# Altium integrated library Lattice MACHXO FPGA.IntLib: 109 symbols
Pins are listed as number, name and electrical type; pins without a type are passive.

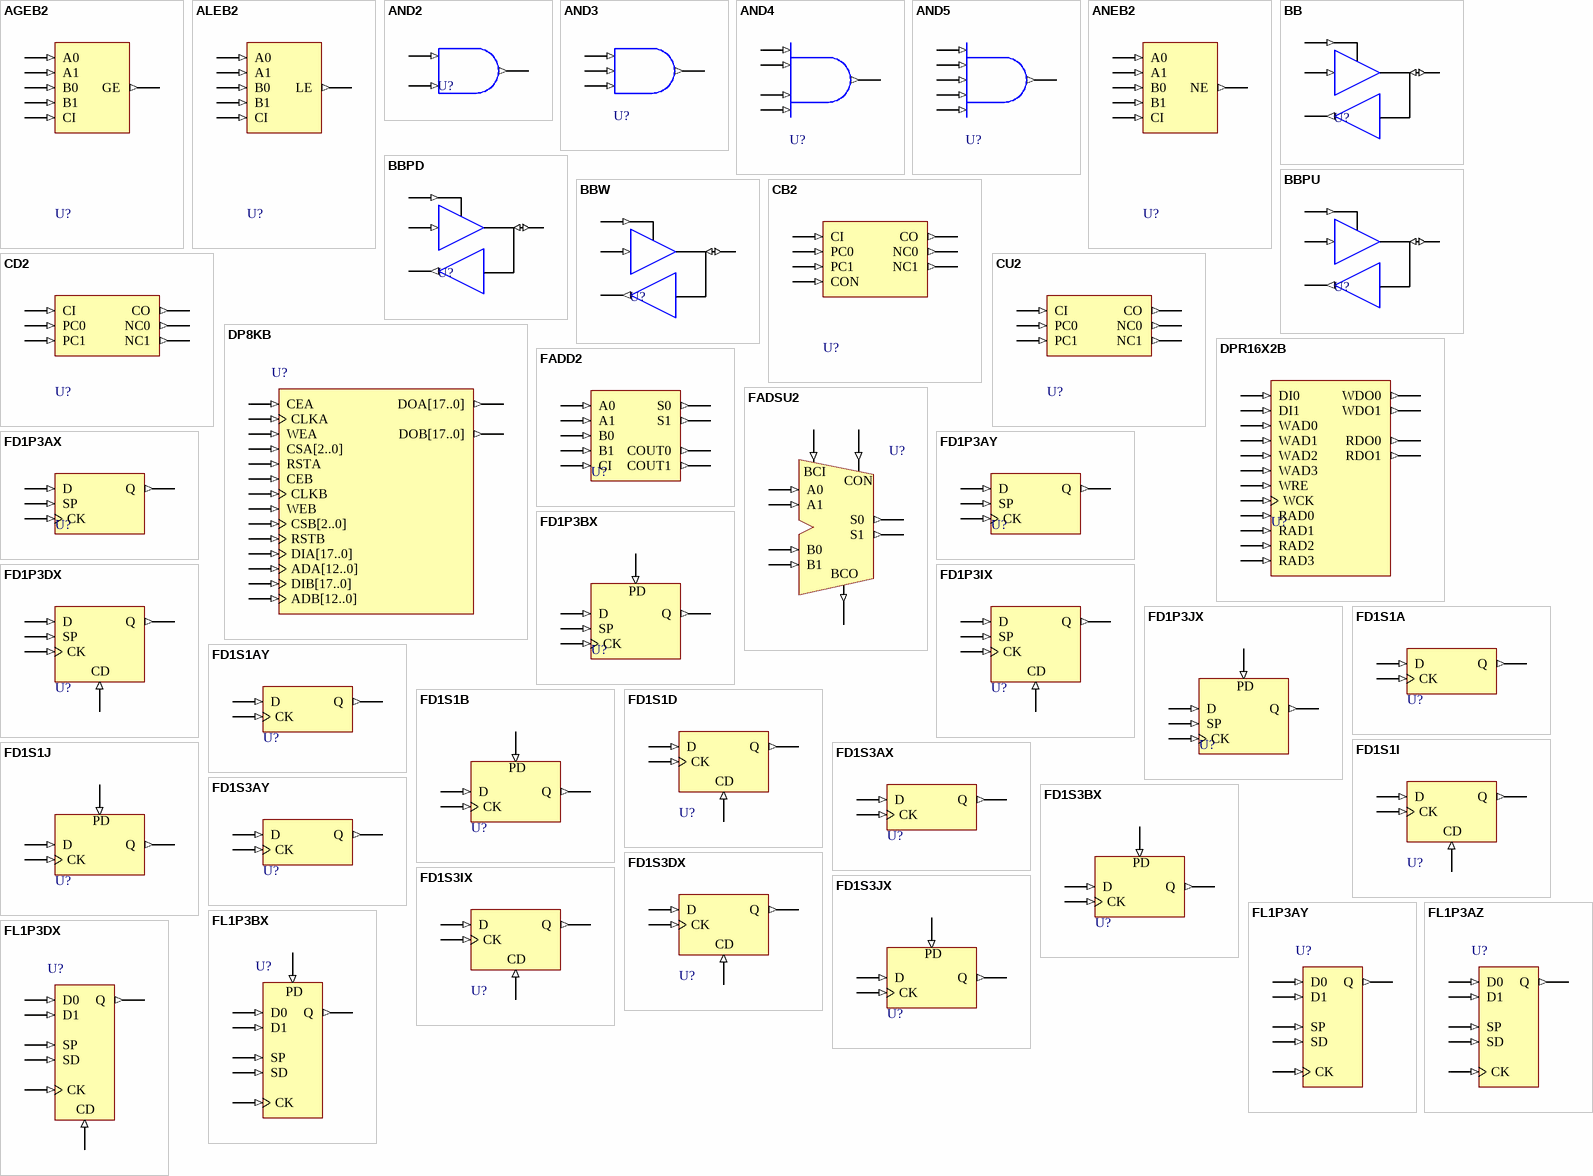
[diagram p0: symbols AGEB2 to FL1P3DX]

## AGEB2
designator U?
"A" Greater Than Or Equal To "B" (2 Bit); FPGAVendor: Lattice; Published: 5-Jul-2006; Publisher: Altium Limited; HelpURL: http://www.latticesemi.com/lit/docs/manuals/library.pdf
pins: A0 (in), A1 (in), B0 (in), B1 (in), CI (in), GE (out)

## ALEB2
designator U?
"A"Less Than Or Equal To "B" (2 bit); FPGAVendor: Lattice; Published: 5-Jul-2006; Publisher: Altium Limited; HelpURL: http://www.latticesemi.com/lit/docs/manuals/library.pdf
pins: A0 (in), A1 (in), B0 (in), B1 (in), CI (in), LE (out)

## AND2
designator U?
2 Input AND Gate; FPGAVendor: Lattice; Published: 5-Jul-2006; Publisher: Altium Limited; HelpURL: http://www.latticesemi.com/lit/docs/manuals/library.pdf
pins: A (in), B (in), Z (out)

## AND3
designator U?
3 Input AND Gate; FPGAVendor: Lattice; Published: 5-Jul-2006; Publisher: Altium Limited; HelpURL: http://www.latticesemi.com/lit/docs/manuals/library.pdf
pins: A (in), B (in), C (in), Z (out)

## AND4
designator U?
4 Input AND Gate; FPGAVendor: Lattice; Published: 5-Jul-2006; Publisher: Altium Limited; HelpURL: http://www.latticesemi.com/lit/docs/manuals/library.pdf
pins: A (in), B (in), C (in), D (in), Z (out)

## AND5
designator U?
5 Input AND Gate; FPGAVendor: Lattice; Published: 5-Jul-2006; Publisher: Altium Limited; HelpURL: http://www.latticesemi.com/lit/docs/manuals/library.pdf
pins: A (in), B (in), C (in), D (in), E (in), Z (out)

## ANEB2
designator U?
"A"Not Equal To "B" (2 bit); FPGAVendor: Lattice; Published: 5-Jul-2006; Publisher: Altium Limited; HelpURL: http://www.latticesemi.com/lit/docs/manuals/library.pdf
pins: A0 (in), A1 (in), B0 (in), B1 (in), CI (in), NE (out)

## BB
designator U?
CMOS Input 6mA Sink 3mA Source Sinklim Output Buffer with Tristate – BiDirectional; FPGAVendor: Lattice; Published: 5-Jul-2006; Publisher: Altium Limited; HelpURL: http://www.latticesemi.com/lit/docs/manuals/library.pdf
pins: B (io), I (in), O (out), T (in)

## BBPD
designator U?
CMOS Input 6mA Sink 3mA Source Sinklim Output Buffer with Tristate and Pull-down – BiDirectional; FPGAVendor: Lattice; Published: 5-Jul-2006; Publisher: Altium Limited; HelpURL: http://www.latticesemi.com/lit/docs/manuals/library.pdf
pins: B (io), I (in), O (out), T (in)

## BBPU
designator U?
CMOS Input 6mA Sink 3mA Source Sinklim Output Buffer with Tristate and Pull-up – BiDirectional; FPGAVendor: Lattice; Published: 5-Jul-2006; Publisher: Altium Limited; HelpURL: http://www.latticesemi.com/lit/docs/manuals/library.pdf
pins: B (io), I (in), O (out), T (in)

## BBW
designator U?
CMOS Input 6mA Sink 3mA Source Sinklim Output Buffer with Tristate – BiDirectional in keepermode; FPGAVendor: Lattice; Published: 5-Jul-2006; Publisher: Altium Limited; HelpURL: http://www.latticesemi.com/lit/docs/manuals/library.pdf
pins: B (io), I (in), O (out), T (in)

## CB2
designator U?
LatticeXP based counter; Published: 5-Jul-2006; Publisher: Altium Limited; FPGAVendor: Lattice; HelpURL: http://www.latticesemi.com/lit/docs/manuals/library.pdf
pins: CI (in), CO (out), CON (in), NC0 (out), NC1 (out), PC0 (in), PC1 (in)

## CD2
designator U?
Combinational Logic for 2 Bit Down Counter using Look-Up Table; FPGAVendor: Lattice; Published: 5-Jul-2006; Publisher: Altium Limited; HelpURL: http://www.latticesemi.com/lit/docs/manuals/library.pdf
pins: CI (in), CO (out), NC0 (out), NC1 (out), PC0 (in), PC1 (in)

## CU2
designator U?
Combinational Logic for 2 Bit Up Counter using Look-Up Table; FPGAVendor: Lattice; Published: 5-Jul-2006; Publisher: Altium Limited; HelpURL: http://www.latticesemi.com/lit/docs/manuals/library.pdf
pins: CI (in), CO (out), NC0 (out), NC1 (out), PC0 (in), PC1 (in)

## DP8KB
designator U?
8K Dual Port Block RAM; FPGAVendor: Lattice; Published: 5-Jul-2006; Publisher: Altium Limited; HelpURL: http://www.latticesemi.com/lit/docs/manuals/library.pdf
pins: ADA[12..0] (in), ADB[12..0] (in), CEA (in), CEB (in), CLKA (in), CLKB (in), CSA[2..0] (in), CSB[2..0] (in), DIA[17..0] (in), DIB[17..0] (in), DOA[17..0] (out), DOB[17..0] (out), RSTA (in), RSTB (in), WEA (in), WEB (in)

## DPR16X2B
designator U?
16 Word by 2 Dual Port RAM (within PFU); FPGAVendor: Lattice; Published: 5-Jul-2006; Publisher: Altium Limited; HelpURL: http://www.latticesemi.com/lit/docs/manuals/library.pdf
pins: DI0 (in), DI1 (in), RAD0 (in), RAD1 (in), RAD2 (in), RAD3 (in), RDO0 (out), RDO1 (out), WAD0 (in), WAD1 (in), WAD2 (in), WAD3 (in), WCK (in), WDO0 (out), WDO1 (out), WRE (in)

## FADD2
designator U?
2 Bit Fast Adder; FPGAVendor: Lattice; Published: 5-Jul-2006; Publisher: Altium Limited; HelpURL: http://www.latticesemi.com/lit/docs/manuals/library.pdf
pins: A0 (in), A1 (in), B0 (in), B1 (in), CI (in), COUT0 (out), COUT1 (out), S0 (out), S1 (out)

## FADSU2
designator U?
2 Bit Fast Adder/Subtracter (two’s complement); FPGAVendor: Lattice; Published: 5-Jul-2006; Publisher: Altium Limited; HelpURL: http://www.latticesemi.com/lit/docs/manuals/library.pdf
pins: A0 (in), A1 (in), B0 (in), B1 (in), BCI (in), BCO (out), CON (in), S0 (out), S1 (out)

## FD1P3AX
designator U?
Positive Edge Triggered D Flip-Flop with Positive Level Enable, GSR used for Clear; FPGAVendor: Lattice; Published: 5-Jul-2006; Publisher: Altium Limited; HelpURL: http://www.latticesemi.com/lit/docs/manuals/library.pdf
pins: CK (in), D (in), Q (out), SP (in)

## FD1P3AY
designator U?
Positive Edge Triggered D Flip-Flop with Positive Level Enable, GSR used for Preset; FPGAVendor: Lattice; Published: 5-Jul-2006; Publisher: Altium Limited; HelpURL: http://www.latticesemi.com/lit/docs/manuals/library.pdf
pins: CK (in), D (in), Q (out), SP (in)

## FD1P3BX
designator U?
Positive Edge Triggered D Flip-Flop with Positive Level Enable and Positive Level Asynchronous Preset; FPGAVendor: Lattice; Published: 5-Jul-2006; Publisher: Altium Limited; HelpURL: http://www.latticesemi.com/lit/docs/manuals/library.pdf
pins: CK (in), D (in), PD (in), Q (out), SP (in)

## FD1P3DX
designator U?
Positive Edge Triggered D Flip-Flop with Positive Level Enable and Positive Level Asynchronous Clear; FPGAVendor: Lattice; Published: 5-Jul-2006; Publisher: Altium Limited; HelpURL: http://www.latticesemi.com/lit/docs/manuals/library.pdf
pins: CD (in), CK (in), D (in), Q (out), SP (in)

## FD1P3IX
designator U?
Positive Edge Triggered D Flip-Flop with Positive Level Synchronous Clear and Positive Level Enable (Clear overrides Enable); FPGAVendor: Lattice; Published: 5-Jul-2006; Publisher: Altium Limited; HelpURL: http://www.latticesemi.com/lit/docs/manuals/library.pdf
pins: CD (in), CK (in), D (in), Q (out), SP (in)

## FD1P3JX
designator U?
Positive Edge Triggered D Flip-Flop with Positive Level Synchronous Preset and Positive Level Enable (Preset overrides Enable); FPGAVendor: Lattice; Published: 5-Jul-2006; Publisher: Altium Limited; HelpURL: http://www.latticesemi.com/lit/docs/manuals/library.pdf
pins: CK (in), D (in), PD (in), Q (out), SP (in)

## FD1S1A
designator U?
Positive Level Data Latch with GSR Used for Clear; FPGAVendor: Lattice; Published: 5-Jul-2006; Publisher: Altium Limited; HelpURL: http://www.latticesemi.com/lit/docs/manuals/library.pdf
pins: CK (in), D (in), Q (out)

## FD1S1AY
designator U?
Positive Level Data Latch with GSR Used for Preset; FPGAVendor: Lattice; Published: 5-Jul-2006; Publisher: Altium Limited; HelpURL: http://www.latticesemi.com/lit/docs/manuals/library.pdf
pins: CK (in), D (in), Q (out)

## FD1S1B
designator U?
Positive Level Data Latch with Positive Level Asynchronous Preset; FPGAVendor: Lattice; Published: 5-Jul-2006; Publisher: Altium Limited; HelpURL: http://www.latticesemi.com/lit/docs/manuals/library.pdf
pins: CK (in), D (in), PD (in), Q (out)

## FD1S1D
designator U?
Positive Level Data Latch with Positive Level Asynchronous Clear; FPGAVendor: Lattice; Published: 5-Jul-2006; Publisher: Altium Limited; HelpURL: http://www.latticesemi.com/lit/docs/manuals/library.pdf
pins: CD (in), CK (in), D (in), Q (out)

## FD1S1I
designator U?
Positive Level Data Latch with Positive Level Synchronous Clear; FPGAVendor: Lattice; Published: 5-Jul-2006; Publisher: Altium Limited; HelpURL: http://www.latticesemi.com/lit/docs/manuals/library.pdf
pins: CD (in), CK (in), D (in), Q (out)

## FD1S1J
designator U?
Positive Level Data Latch with Positive Level Synchronous Preset; FPGAVendor: Lattice; Published: 5-Jul-2006; Publisher: Altium Limited; HelpURL: http://www.latticesemi.com/lit/docs/manuals/library.pdf
pins: CK (in), D (in), PD (in), Q (out)

## FD1S3AX
designator U?
Positive Edge Triggered D Flip-Flop, GSR Used for Clear; FPGAVendor: Lattice; Published: 5-Jul-2006; Publisher: Altium Limited; HelpURL: http://www.latticesemi.com/lit/docs/manuals/library.pdf
pins: CK (in), D (in), Q (out)

## FD1S3AY
designator U?
Positive Edge Triggered D Flip-Flop, GSR Used for Preset; FPGAVendor: Lattice; Published: 5-Jul-2006; Publisher: Altium Limited; HelpURL: http://www.latticesemi.com/lit/docs/manuals/library.pdf
pins: CK (in), D (in), Q (out)

## FD1S3BX
designator U?
Positive Edge Triggered D Flip-Flop with Positive Level Asynchronous Preset; FPGAVendor: Lattice; Published: 5-Jul-2006; Publisher: Altium Limited; HelpURL: http://www.latticesemi.com/lit/docs/manuals/library.pdf
pins: CK (in), D (in), PD (in), Q (out)

## FD1S3DX
designator U?
Positive Edge Triggered D Flip-Flop with Positive Level Asynchronous Clear; FPGAVendor: Lattice; Published: 5-Jul-2006; Publisher: Altium Limited; HelpURL: http://www.latticesemi.com/lit/docs/manuals/library.pdf
pins: CD (in), CK (in), D (in), Q (out)

## FD1S3IX
designator U?
Positive Edge Triggered D Flip-Flop with Positive Level Synchronous Clear; FPGAVendor: Lattice; Published: 5-Jul-2006; Publisher: Altium Limited; HelpURL: http://www.latticesemi.com/lit/docs/manuals/library.pdf
pins: CD (in), CK (in), D (in), Q (out)

## FD1S3JX
designator U?
Positive Edge Triggered D Flip-Flop with Positive Level Synchronous Preset; FPGAVendor: Lattice; Published: 5-Jul-2006; Publisher: Altium Limited; HelpURL: http://www.latticesemi.com/lit/docs/manuals/library.pdf
pins: CK (in), D (in), PD (in), Q (out)

## FL1P3AY
designator U?
Positive Edge Triggered D Flip-Flop with 2 Input Data Mux, Positive Level Data Select, and Positive Level Enable, GSR used for Preset; FPGAVendor: Lattice; Published: 5-Jul-2006; Publisher: Altium Limited; HelpURL: http://www.latticesemi.com/lit/docs/manuals/library.pdf
pins: CK (in), D0 (in), D1 (in), Q (out), SD (in), SP (in)

## FL1P3AZ
designator U?
Positive Edge Triggered D Flip-Flop with 2 Input Data Mux, Positive Level Data Select, and Positive Level Enable, GSR used for Clear; FPGAVendor: Lattice; Published: 5-Jul-2006; Publisher: Altium Limited; HelpURL: http://www.latticesemi.com/lit/docs/manuals/library.pdf
pins: CK (in), D0 (in), D1 (in), Q (out), SD (in), SP (in)

## FL1P3BX
designator U?
Positive Edge Triggered D Flip-Flop with 2 Input Data Mux, Positive Level Data Select, Positive Level Asynchronous Preset, and Positive Level Enable; FPGAVendor: Lattice; Published: 5-Jul-2006; Publisher: Altium Limited; HelpURL: http://www.latticesemi.com/lit/docs/manuals/library.pdf
pins: CK (in), D0 (in), D1 (in), PD (in), Q (out), SD (in), SP (in)

## FL1P3DX
designator U?
Positive Edge Triggered D Flip-Flop with 2 Input Data Mux, Positive Level Data Select, Positive Level Asynchronous Clear, and Positive Level Enable; FPGAVendor: Lattice; Published: 5-Jul-2006; Publisher: Altium Limited; HelpURL: http://www.latticesemi.com/lit/docs/manuals/library.pdf
pins: CD (in), CK (in), D0 (in), D1 (in), Q (out), SD (in), SP (in)

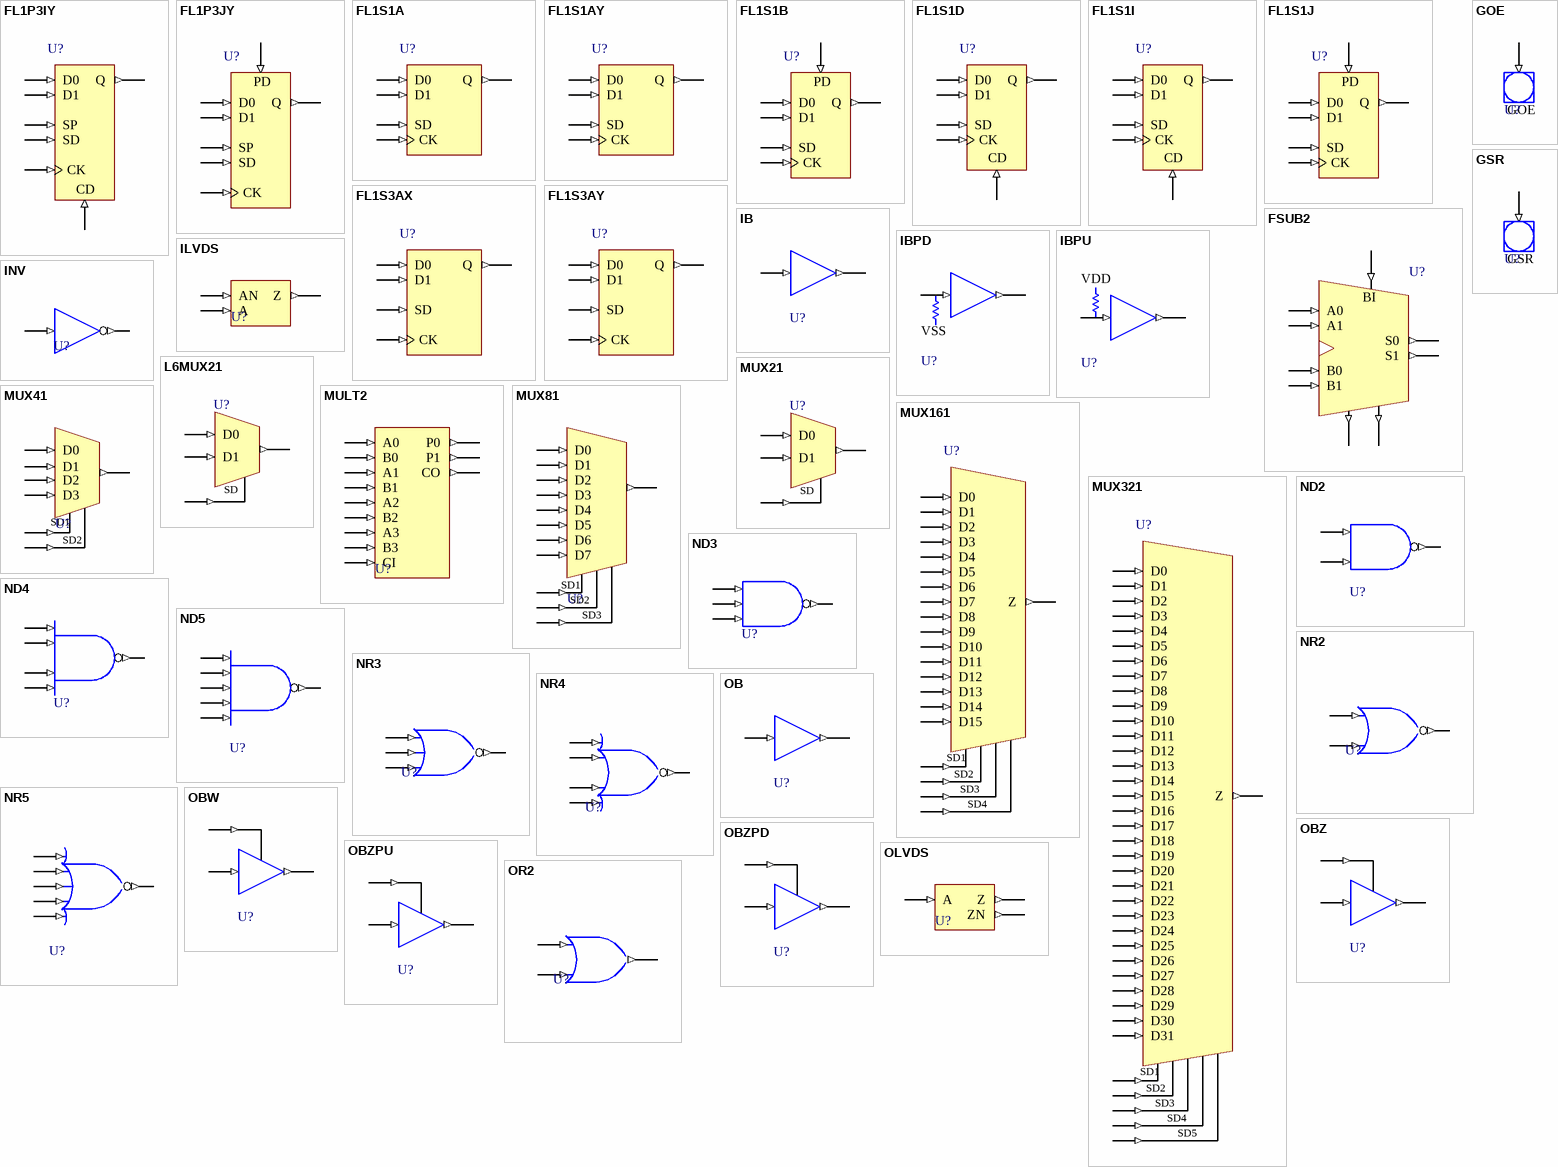
[diagram p1: symbols FL1P3IY to OR2]

## FL1P3IY
designator U?
Positive Edge Triggered D Flip-Flop with 2 Input Data Mux, Positive Level Data Select, Positive Level Synchronous Clear, and Positive Level Enable (Clear overrides Enable); FPGAVendor: Lattice; Published: 5-Jul-2006; Publisher: Altium Limited; HelpURL: http://www.latticesemi.com/lit/docs/manuals/library.pdf
pins: CD (in), CK (in), D0 (in), D1 (in), Q (out), SD (in), SP (in)

## FL1P3JY
designator U?
Positive Edge Triggered D Flip-Flop with 2 Input Data Mux, Positive Level Data Select, Positive Level Synchronous Preset, and Positive Level Enable (Preset overrides Enable); FPGAVendor: Lattice; Published: 5-Jul-2006; Publisher: Altium Limited; HelpURL: http://www.latticesemi.com/lit/docs/manuals/library.pdf
pins: CK (in), D0 (in), D1 (in), PD (in), Q (out), SD (in), SP (in)

## FL1S1A
designator U?
Positive Level Loadable Latch with Positive Select, GSR Used for Clear; FPGAVendor: Lattice; Published: 5-Jul-2006; Publisher: Altium Limited; HelpURL: http://www.latticesemi.com/lit/docs/manuals/library.pdf
pins: CK (in), D0 (in), D1 (in), Q (out), SD (in)

## FL1S1AY
designator U?
Positive Level Loadable Latch with Positive Select, GSR Used for Preset; FPGAVendor: Lattice; Published: 5-Jul-2006; Publisher: Altium Limited; HelpURL: http://www.latticesemi.com/lit/docs/manuals/library.pdf
pins: CK (in), D0 (in), D1 (in), Q (out), SD (in)

## FL1S1B
designator U?
Positive Level Loadable Latch with Positive Level Data Select and Positive Level Asynchronous Preset; FPGAVendor: Lattice; Published: 5-Jul-2006; Publisher: Altium Limited; HelpURL: http://www.latticesemi.com/lit/docs/manuals/library.pdf
pins: CK (in), D0 (in), D1 (in), PD (in), Q (out), SD (in)

## FL1S1D
designator U?
Positive Level Loadable Latch with Positive Level Data Select and Positive Level Asynchronous Clear; FPGAVendor: Lattice; Published: 5-Jul-2006; Publisher: Altium Limited; HelpURL: http://www.latticesemi.com/lit/docs/manuals/library.pdf
pins: CD (in), CK (in), D0 (in), D1 (in), Q (out), SD (in)

## FL1S1I
designator U?
Positive Level Loadable Latch with Positive Level Data Select and Positive Level Synchronous Clear; FPGAVendor: Lattice; Published: 5-Jul-2006; Publisher: Altium Limited; HelpURL: http://www.latticesemi.com/lit/docs/manuals/library.pdf
pins: CD (in), CK (in), D0 (in), D1 (in), Q (out), SD (in)

## FL1S1J
designator U?
Positive Level Loadable Latch with Positive Level Data Select and Positive Level Synchronous Preset; FPGAVendor: Lattice; Published: 5-Jul-2006; Publisher: Altium Limited; HelpURL: http://www.latticesemi.com/lit/docs/manuals/library.pdf
pins: CK (in), D0 (in), D1 (in), PD (in), Q (out), SD (in)

## FL1S3AX
designator U?
Positive Edge Triggered D Flip-Flop with 2 Input Data Mux, GSR used for Clear; FPGAVendor: Lattice; Published: 5-Jul-2006; Publisher: Altium Limited; HelpURL: http://www.latticesemi.com/lit/docs/manuals/library.pdf
pins: CK (in), D0 (in), D1 (in), Q (out), SD (in)

## FL1S3AY
designator U?
Positive Edge Triggered D Flip-Flop with 2 Input Data Mux, GSR used for Preset; FPGAVendor: Lattice; Published: 5-Jul-2006; Publisher: Altium Limited; HelpURL: http://www.latticesemi.com/lit/docs/manuals/library.pdf
pins: CK (in), D0 (in), D1 (in), Q (out), SD (in)

## FSUB2
designator U?
2 Bit Fast Subtracter (two’s complement); FPGAVendor: Lattice; Published: 5-Jul-2006; Publisher: Altium Limited; HelpURL: http://www.latticesemi.com/lit/docs/manuals/library.pdf
pins: A0 (in), A1 (in), B0 (in), B1 (in), BI (in), BOUT0 (out), BOUT1 (out), S0 (out), S1 (out)

## GOE
designator U?
Global Ouput Enable; FPGAVendor: Lattice; Published: 5-Jul-2006; Publisher: Altium Limited; HelpURL: http://www.latticesemi.com/lit/docs/manuals/library.pdf
pins: GOE (in)

## GSR
designator U?
Global Set/Reset; FPGAVendor: Lattice; Published: 5-Jul-2006; Publisher: Altium Limited; HelpURL: http://www.latticesemi.com/lit/docs/manuals/library.pdf
pins: GSR (in)

## IB
designator U?
CMOS Input Buffer; FPGAVendor: Lattice; Published: 5-Jul-2006; Publisher: Altium Limited; HelpURL: http://www.latticesemi.com/lit/docs/manuals/library.pdf
pins: I (in), O (out)

## IBPD
designator U?
Input Buffer with Pull-down; FPGAVendor: Lattice; Published: 5-Jul-2006; Publisher: Altium Limited; HelpURL: http://www.latticesemi.com/lit/docs/manuals/library.pdf
pins: I (in), O (out)
text: VSS

## IBPU
designator U?
Input Buffer with Pull-up; FPGAVendor: Lattice; Published: 5-Jul-2006; Publisher: Altium Limited; HelpURL: http://www.latticesemi.com/lit/docs/manuals/library.pdf
pins: I (in), O (out)
text: VDD

## ILVDS
designator U?
LVDS Input Buffer; FPGAVendor: Lattice; Published: 5-Jul-2006; Publisher: Altium Limited; HelpURL: http://www.latticesemi.com/lit/docs/manuals/library.pdf
pins: A (in), AN (in), Z (out)

## INV
designator U?
Inverter; FPGAVendor: Lattice; Published: 5-Jul-2006; Publisher: Altium Limited; HelpURL: http://www.latticesemi.com/lit/docs/manuals/library.pdf
pins: A (in), Z (out)

## L6MUX21
designator U?
2 to 1 Mux; FPGAVendor: Lattice; Published: 5-Jul-2006; Publisher: Altium Limited; HelpURL: http://www.latticesemi.com/lit/docs/manuals/library.pdf
pins: D0 (in), D1 (in), SD (in), Z (out)

## MULT2
designator U?
2x2 Multiplier; FPGAVendor: Lattice; Published: 5-Jul-2006; Publisher: Altium Limited; HelpURL: http://www.latticesemi.com/lit/docs/manuals/library.pdf
pins: A0 (in), A1 (in), A2 (in), A3 (in), B0 (in), B1 (in), B2 (in), B3 (in), CI (in), CO (out), P0 (out), P1 (out)

## MUX21
designator U?
2 to 1 Mux; FPGAVendor: Lattice; Published: 5-Jul-2006; Publisher: Altium Limited; HelpURL: http://www.latticesemi.com/lit/docs/manuals/library.pdf
pins: D0 (in), D1 (in), SD (in), Z (out)

## MUX41
designator U?
4 to 1 Mux; FPGAVendor: Lattice; Published: 5-Jul-2006; Publisher: Altium Limited; HelpURL: http://www.latticesemi.com/lit/docs/manuals/library.pdf
pins: D0 (in), D1 (in), D2 (in), D3 (in), SD1 (in), SD2 (in), Z (out)

## MUX81
designator U?
8 to 1 Mux; FPGAVendor: Lattice; Published: 5-Jul-2006; Publisher: Altium Limited; HelpURL: http://www.latticesemi.com/lit/docs/manuals/library.pdf
pins: D0 (in), D1 (in), D2 (in), D3 (in), D4 (in), D5 (in), D6 (in), D7 (in), SD1 (in), SD2 (in), SD3 (in), Z (out)

## MUX161
designator U?
16 to 1 Mux in PFU; FPGAVendor: Lattice; Published: 5-Jul-2006; Publisher: Altium Limited; HelpURL: http://www.latticesemi.com/lit/docs/manuals/library.pdf
pins: D0 (in), D1 (in), D2 (in), D3 (in), D4 (in), D5 (in), D6 (in), D7 (in), D8 (in), D9 (in), D10 (in), D11 (in), D12 (in), D13 (in), D14 (in), D15 (in), SD1 (in), SD2 (in), SD3 (in), SD4 (in), Z (out)

## MUX321
designator U?
32 to 1 Mux; FPGAVendor: Lattice; Published: 5-Jul-2006; Publisher: Altium Limited; HelpURL: http://www.latticesemi.com/lit/docs/manuals/library.pdf
pins: D0 (in), D1 (in), D2 (in), D3 (in), D4 (in), D5 (in), D6 (in), D7 (in), D8 (in), D9 (in), D10 (in), D11 (in), D12 (in), D13 (in), D14 (in), D15 (in), D16 (in), D17 (in), D18 (in), D19 (in), D20 (in), D21 (in), D22 (in), D23 (in), D24 (in), D25 (in), D26 (in), D27 (in), D28 (in), D29 (in), D30 (in), D31 (in), SD1 (in), SD2 (in), SD3 (in), SD4 (in), SD5 (in), Z (out)

## ND2
designator U?
2 Input NAND Gate; FPGAVendor: Lattice; Published: 5-Jul-2006; Publisher: Altium Limited; HelpURL: http://www.latticesemi.com/lit/docs/manuals/library.pdf
pins: A (in), B (in), Z (out)

## ND3
designator U?
3 Input NAND Gate; FPGAVendor: Lattice; Published: 5-Jul-2006; Publisher: Altium Limited; HelpURL: http://www.latticesemi.com/lit/docs/manuals/library.pdf
pins: A (in), B (in), C (in), Z (out)

## ND4
designator U?
4 Input NAND Gate; FPGAVendor: Lattice; Published: 5-Jul-2006; Publisher: Altium Limited; HelpURL: http://www.latticesemi.com/lit/docs/manuals/library.pdf
pins: A (in), B (in), C (in), D (in), Z (out)

## ND5
designator U?
5 Input NAND Gate; FPGAVendor: Lattice; Published: 5-Jul-2006; Publisher: Altium Limited; HelpURL: http://www.latticesemi.com/lit/docs/manuals/library.pdf
pins: A (in), B (in), C (in), D (in), E (in), Z (out)

## NR2
designator U?
2 Input NOR Gate; FPGAVendor: Lattice; Published: 5-Jul-2006; Publisher: Altium Limited; HelpURL: http://www.latticesemi.com/lit/docs/manuals/library.pdf
pins: A (in), B (in), Z (out)

## NR3
designator U?
3 Input NOR Gate; FPGAVendor: Lattice; Published: 5-Jul-2006; Publisher: Altium Limited; HelpURL: http://www.latticesemi.com/lit/docs/manuals/library.pdf
pins: A (in), B (in), C (in), Z (out)

## NR4
designator U?
4 Input NOR Gate; FPGAVendor: Lattice; Published: 5-Jul-2006; Publisher: Altium Limited; HelpURL: http://www.latticesemi.com/lit/docs/manuals/library.pdf
pins: A (in), B (in), C (in), D (in), Z (out)

## NR5
designator U?
5 Input NOR Gate; FPGAVendor: Lattice; Published: 5-Jul-2006; Publisher: Altium Limited; HelpURL: http://www.latticesemi.com/lit/docs/manuals/library.pdf
pins: A (in), B (in), C (in), D (in), E (in), Z (out)

## OB
designator U?
Output Buffer; FPGAVendor: Lattice; Published: 5-Jul-2006; Publisher: Altium Limited; HelpURL: http://www.latticesemi.com/lit/docs/manuals/library.pdf
pins: I (in), O (out)

## OBW
designator U?
6mA Sink 3mA Source Sinklim Output Buffer with Tristate; FPGAVendor: Lattice; Published: 5-Jul-2006; Publisher: Altium Limited; HelpURL: http://www.latticesemi.com/lit/docs/manuals/library.pdf
pins: I (in), O (out), T (in)

## OBZ
designator U?
6mA Sink 3mA Source Sinklim Output Buffer; FPGAVendor: Lattice; Published: 5-Jul-2006; Publisher: Altium Limited; HelpURL: http://www.latticesemi.com/lit/docs/manuals/library.pdf
pins: I (in), O (out), T (in)

## OBZPD
designator U?
12mA Sink 6mA Source Slewlim Output Buffer; FPGAVendor: Lattice; Published: 5-Jul-2006; Publisher: Altium Limited; HelpURL: http://www.latticesemi.com/lit/docs/manuals/library.pdf
pins: I (in), O (out), T (in)

## OBZPU
designator U?
12mA Sink 6mA Source Fast Output Buffer; FPGAVendor: Lattice; Published: 5-Jul-2006; Publisher: Altium Limited; HelpURL: http://www.latticesemi.com/lit/docs/manuals/library.pdf
pins: I (in), O (out), T (in)

## OLVDS
designator U?
LVDS Output Buffer; FPGAVendor: Lattice; Published: 5-Jul-2006; Publisher: Altium Limited; HelpURL: http://www.latticesemi.com/lit/docs/manuals/library.pdf
pins: A (in), Z (out), ZN (out)

## OR2
designator U?
2 Input OR Gate; FPGAVendor: Lattice; Published: 5-Jul-2006; Publisher: Altium Limited; HelpURL: http://www.latticesemi.com/lit/docs/manuals/library.pdf
pins: A (in), B (in), Z (out)

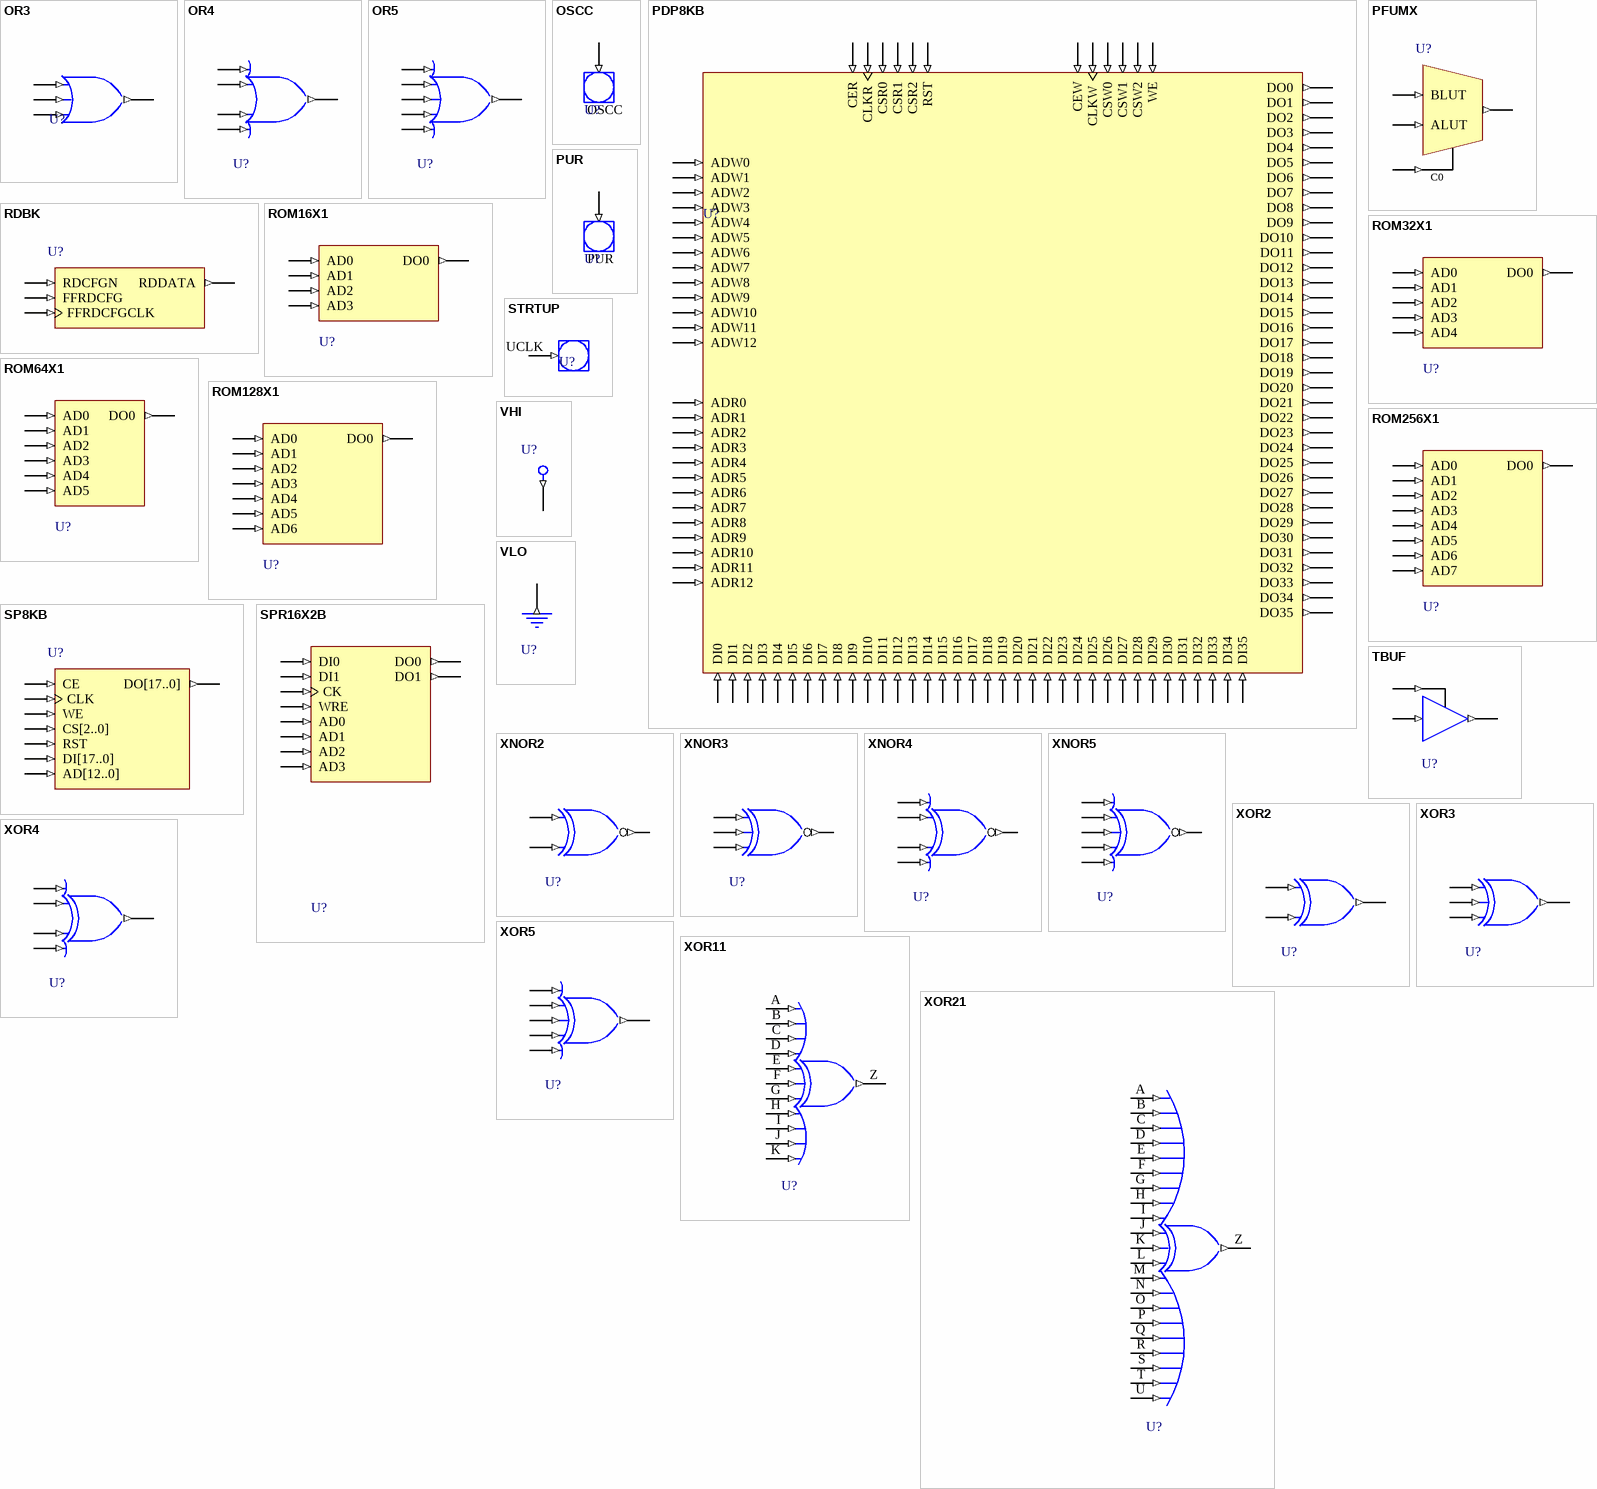
[diagram p2: symbols OR3 to XOR21]

## OR3
designator U?
3 Input OR Gate; FPGAVendor: Lattice; Published: 5-Jul-2006; Publisher: Altium Limited; HelpURL: http://www.latticesemi.com/lit/docs/manuals/library.pdf
pins: A (in), B (in), C (in), Z (out)

## OR4
designator U?
4 Input OR Gate; FPGAVendor: Lattice; Published: 5-Jul-2006; Publisher: Altium Limited; HelpURL: http://www.latticesemi.com/lit/docs/manuals/library.pdf
pins: A (in), B (in), C (in), D (in), Z (out)

## OR5
designator U?
5 Input OR Gate; FPGAVendor: Lattice; Published: 5-Jul-2006; Publisher: Altium Limited; HelpURL: http://www.latticesemi.com/lit/docs/manuals/library.pdf
pins: A (in), B (in), C (in), D (in), E (in), Z (out)

## OSCC
designator U?
Internal Oscillator; FPGAVendor: Lattice; Published: 5-Jul-2006; Publisher: Altium Limited; HelpURL: http://www.latticesemi.com/lit/docs/manuals/library.pdf
pins: OSC (in)

## PDP8KB
designator U?
8K Pseudo Dual Port Block RAM; FPGAVendor: Lattice; Published: 5-Jul-2006; Publisher: Altium Limited; HelpURL: http://www.latticesemi.com/lit/docs/manuals/library.pdf
pins: ADR0 (in), ADR1 (in), ADR2 (in), ADR3 (in), ADR4 (in), ADR5 (in), ADR6 (in), ADR7 (in), ADR8 (in), ADR9 (in), ADR10 (in), ADR11 (in), ADR12 (in), ADW0 (in), ADW1 (in), ADW2 (in), ADW3 (in), ADW4 (in), ADW5 (in), ADW6 (in), ADW7 (in), ADW8 (in), ADW9 (in), ADW10 (in), ADW11 (in), ADW12 (in), CER (in), CEW (in), CLKR (in), CLKW (in), CSR0 (in), CSR1 (in), CSR2 (in), CSW0 (in), CSW1 (in), CSW2 (in), DI0 (in), DI1 (in), DI2 (in), DI3 (in), DI4 (in), DI5 (in), DI6 (in), DI7 (in), DI8 (in), DI9 (in), DI10 (in), DI11 (in), DI12 (in), DI13 (in), DI14 (in), DI15 (in), DI16 (in), DI17 (in), DI18 (in), DI19 (in), DI20 (in), DI21 (in), DI22 (in), DI23 (in), DI24 (in), DI25 (in), DI26 (in), DI27 (in), DI28 (in), DI29 (in), DI30 (in), DI31 (in), DI32 (in), DI33 (in), DI34 (in), DI35 (in), DO0 (out), DO1 (out), DO2 (out), DO3 (out), DO4 (out), DO5 (out), DO6 (out), DO7 (out), DO8 (out), DO9 (out), DO10 (out), DO11 (out), DO12 (out), DO13 (out), DO14 (out), DO15 (out), DO16 (out), DO17 (out), DO18 (out), DO19 (out), DO20 (out), DO21 (out), DO22 (out), DO23 (out), DO24 (out), DO25 (out), DO26 (out), DO27 (out), DO28 (out), DO29 (out), DO30 (out), DO31 (out), DO32 (out), DO33 (out), DO34 (out), DO35 (out), RST (in), WE (in)

## PFUMX
designator U?
PFU Mux; FPGAVendor: Lattice; Published: 5-Jul-2006; Publisher: Altium Limited; HelpURL: http://www.latticesemi.com/lit/docs/manuals/library.pdf
pins: ALUT (in), BLUT (in), C0 (in), Z (out)

## PUR
designator U?
Power Up Set/Reset; FPGAVendor: Lattice; Published: 5-Jul-2006; Publisher: Altium Limited; HelpURL: http://www.latticesemi.com/lit/docs/manuals/library.pdf
pins: PUR (in)

## RDBK
designator U?
Readback Controller; FPGAVendor: Lattice; Published: 5-Jul-2006; Publisher: Altium Limited; HelpURL: http://www.latticesemi.com/lit/docs/manuals/library.pdf
pins: FFRDCFG (in), FFRDCFGCLK (in), RDCFGN (in), RDDATA (out)

## ROM16X1
designator U?
16 Word by 1 Bit Read-Only Memory; FPGAVendor: Lattice; Published: 5-Jul-2006; Publisher: Altium Limited; HelpURL: http://www.latticesemi.com/lit/docs/manuals/library.pdf
pins: AD0 (in), AD1 (in), AD2 (in), AD3 (in), DO0 (out)

## ROM32X1
designator U?
32 Word by 1 Bit Read-Only Memory; FPGAVendor: Lattice; Published: 5-Jul-2006; Publisher: Altium Limited; HelpURL: http://www.latticesemi.com/lit/docs/manuals/library.pdf
pins: AD0 (in), AD1 (in), AD2 (in), AD3 (in), AD4 (in), DO0 (out)

## ROM64X1
designator U?
64 Word by 1 Bit Read-Only Memory; FPGAVendor: Lattice; Published: 5-Jul-2006; Publisher: Altium Limited; HelpURL: http://www.latticesemi.com/lit/docs/manuals/library.pdf
pins: AD0 (in), AD1 (in), AD2 (in), AD3 (in), AD4 (in), AD5 (in), DO0 (out)

## ROM128X1
designator U?
128 Word by 1 Bit Read-Only Memory; FPGAVendor: Lattice; Published: 5-Jul-2006; Publisher: Altium Limited; HelpURL: http://www.latticesemi.com/lit/docs/manuals/library.pdf
pins: AD0 (in), AD1 (in), AD2 (in), AD3 (in), AD4 (in), AD5 (in), AD6 (in), DO0 (out)

## ROM256X1
designator U?
256 Word by 1 Bit Read-Only Memory; FPGAVendor: Lattice; Published: 5-Jul-2006; Publisher: Altium Limited; HelpURL: http://www.latticesemi.com/lit/docs/manuals/library.pdf
pins: AD0 (in), AD1 (in), AD2 (in), AD3 (in), AD4 (in), AD5 (in), AD6 (in), AD7 (in), DO0 (out)

## SP8KB
designator U?
8 Word by 8 Bit Single Port Block RAM; FPGAVendor: Lattice; Published: 5-Jul-2006; Publisher: Altium Limited; HelpURL: http://www.latticesemi.com/lit/docs/manuals/library.pdf
pins: AD[12..0] (in), CE (in), CLK (in), CS[2..0] (in), DI[17..0] (in), DO[17..0] (out), RST (in), WE (in)

## SPR16X2B
designator U?
16 Word by 2 Single Port RAM (within PFU); FPGAVendor: Lattice; Published: 5-Jul-2006; Publisher: Altium Limited; HelpURL: http://www.latticesemi.com/lit/docs/manuals/library.pdf
pins: AD0 (in), AD1 (in), AD2 (in), AD3 (in), CK (in), DI0 (in), DI1 (in), DO0 (out), DO1 (out), WRE (in)

## STRTUP
designator U?
Startup Controller; FPGAVendor: Lattice; Published: 5-Jul-2006; Publisher: Altium Limited; HelpURL: http://www.latticesemi.com/lit/docs/manuals/library.pdf
pins: UCLK (in)

## TBUF
designator U?
Internal Buffer with Tristate (used in SLIC area only); FPGAVendor: Lattice; Published: 5-Jul-2006; Publisher: Altium Limited; HelpURL: http://www.latticesemi.com/lit/docs/manuals/library.pdf
pins: I (in), O (out), T (in)

## VHI
designator U?
Logic High Generator; FPGAVendor: Lattice; Published: 5-Jul-2006; Publisher: Altium Limited; HelpURL: http://www.latticesemi.com/lit/docs/manuals/library.pdf
pins: Z (out)

## VLO
designator U?
Logic Low Generator; FPGAVendor: Lattice; Published: 5-Jul-2006; Publisher: Altium Limited; HelpURL: http://www.latticesemi.com/lit/docs/manuals/library.pdf
pins: Z (out)

## XNOR2
designator U?
2 Input Exclusive NOR Gate; FPGAVendor: Lattice; Published: 5-Jul-2006; Publisher: Altium Limited; HelpURL: http://www.latticesemi.com/lit/docs/manuals/library.pdf
pins: A (in), B (in), Z (out)

## XNOR3
designator U?
3 Input Exclusive NOR Gate; FPGAVendor: Lattice; Published: 5-Jul-2006; Publisher: Altium Limited; HelpURL: http://www.latticesemi.com/lit/docs/manuals/library.pdf
pins: A (in), B (in), C (in), Z (out)

## XNOR4
designator U?
4 Input Exclusive NOR Gate; FPGAVendor: Lattice; Published: 5-Jul-2006; Publisher: Altium Limited; HelpURL: http://www.latticesemi.com/lit/docs/manuals/library.pdf
pins: A (in), B (in), C (in), D (in), Z (out)

## XNOR5
designator U?
5 Input Exclusive NOR Gate; FPGAVendor: Lattice; Published: 5-Jul-2006; Publisher: Altium Limited; HelpURL: http://www.latticesemi.com/lit/docs/manuals/library.pdf
pins: A (in), B (in), C (in), D (in), E (in), Z (out)

## XOR2
designator U?
2 Input Exclusive OR Gate; FPGAVendor: Lattice; Published: 5-Jul-2006; Publisher: Altium Limited; HelpURL: http://www.latticesemi.com/lit/docs/manuals/library.pdf
pins: A (in), B (in), Z (out)

## XOR3
designator U?
3 Input Exclusive OR Gate; FPGAVendor: Lattice; Published: 5-Jul-2006; Publisher: Altium Limited; HelpURL: http://www.latticesemi.com/lit/docs/manuals/library.pdf
pins: A (in), B (in), C (in), Z (out)

## XOR4
designator U?
4 Input Exclusive OR Gate; FPGAVendor: Lattice; Published: 5-Jul-2006; Publisher: Altium Limited; HelpURL: http://www.latticesemi.com/lit/docs/manuals/library.pdf
pins: A (in), B (in), C (in), D (in), Z (out)

## XOR5
designator U?
5 Input Exclusive OR Gate; FPGAVendor: Lattice; Published: 5-Jul-2006; Publisher: Altium Limited; HelpURL: http://www.latticesemi.com/lit/docs/manuals/library.pdf
pins: A (in), B (in), C (in), D (in), E (in), Z (out)

## XOR11
designator U?
11-Input Exclusive OR Gate; FPGAVendor: Lattice; Published: 5-Jul-2006; Publisher: Altium Limited; HelpURL: http://www.latticesemi.com/lit/docs/manuals/library.pdf
pins: A (in), B (in), C (in), D (in), E (in), F (in), G (in), H (in), I (in), J (in), K (in), Z (out)

## XOR21
designator U?
21-Input Exclusive OR Gate; FPGAVendor: Lattice; Published: 5-Jul-2006; Publisher: Altium Limited; HelpURL: http://www.latticesemi.com/lit/docs/manuals/library.pdf
pins: A (in), B (in), C (in), D (in), E (in), F (in), G (in), H (in), I (in), J (in), K (in), L (in), M (in), N (in), O (in), P (in), Q (in), R (in), S (in), T (in), U (in), Z (out)